# EAGLE library part ACS712/ACS714 (library Shohei)
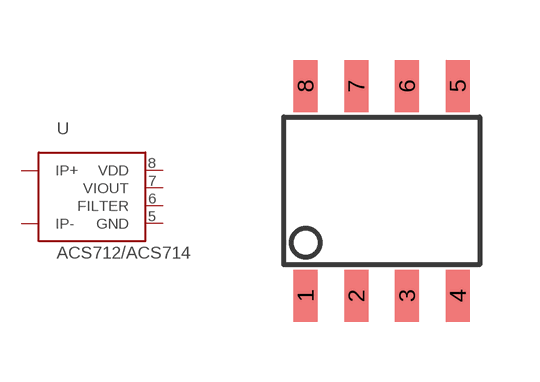
[diagram p9: symbol with the pads of SOIC8; footprint SOIC8]

Designator prefix -

## ACS712/ACS714  [SOIC8]
1  IP+
2  IP+
3  IP-
4  IP-
5  GND
6  FILTER
7  VIOUT
8  VDD

## Footprint SOIC8 (pad centres in mm)
smd 0.6 x 1.3: 1 -1.905,-2.625; 2 -0.635,-2.625; 3 0.635,-2.625; 4 1.905,-2.625; 5 1.905,2.625; 6 0.635,2.625; 7 -0.635,2.625; 8 -1.905,2.625